# Altium schematic symbol library PAD1.SchLib: 1 symbol
Pins are listed as number, name and electrical type; pins without a type are passive.

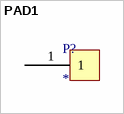
[diagram p0: symbol PAD1]

## PAD1
designator P?
pins: 1